# Altium schematic symbol library dmpro16lib.SchLib: 8 symbols
Pins are listed as number, name and electrical type; pins without a type are passive.

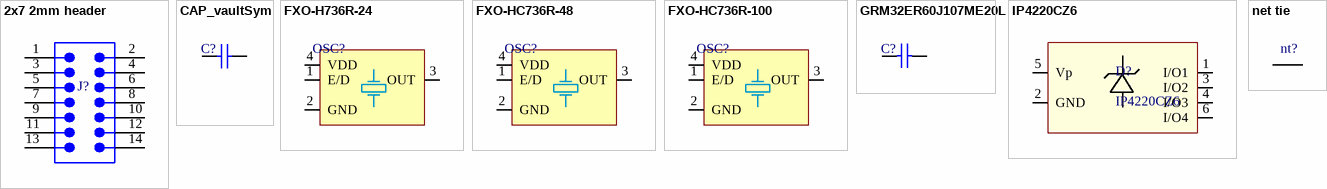
[diagram p0: symbols 2x7 2mm header to net tie]

## 2x7 2mm header
designator J?  (value not drawn)
2 x 7 2mm pitch vertical header; Supplier 1: Digi-Key; Supplier Part Number 1: WM17469-ND
footprint 2x7 2mm (2x7 2mm pitch molex vertical shrouded header)
pins: 1, 2, 3, 4, 5, 6, 7, 8, 9, 10, 11, 12, 13, 14

## CAP_vaultSym
designator C?
pins: 1, 2
1 alternate drawing of the same symbol

## FXO-H736R-24
designator OSC?  (value not drawn)
Supplier 1: Digi-Key; Supplier Part Number 1: 631-1185-1-ND
footprint FXO-HC73 (MEMS oscillator 7x5 mm industry standard package)
pins: 1 E/D, 2 GND, 3 OUT, 4 VDD

## FXO-HC736R-48
designator OSC?  (value not drawn)
Supplier 1: Farnell; Supplier Part Number 1: 1641012RL
footprint FXO-HC73 (MEMS oscillator 7x5 mm industry standard package)
pins: 1 E/D, 2 GND, 3 OUT, 4 VDD

## FXO-HC736R-100
designator OSC?  (value not drawn)
Supplier 1: Digi-Key; Supplier Part Number 1: 631-1176-1-ND
footprint FXO-HC73 (MEMS oscillator 7x5 mm industry standard package)
pins: 1 E/D, 2 GND, 3 OUT, 4 VDD

## GRM32ER60J107ME20L
designator C?  (value not drawn)
1210 100uF capacitor for artix-7 power decoupling; Supplier 1: Digi-Key; Supplier Part Number 1: 490-3390-1-ND
footprint CAPC1210(3225)250_N (Chip Capacitor, Body 3.2x2.5mm, Height 2.5mm, IPC Medium Density)
pins: 1, 2
1 alternate drawing of the same symbol

## IP4220CZ6
designator D?
4 channel USB ESD protection device; Supplier 1: Digi-Key; Supplier Part Number 1: 568-3529-2-ND
footprint NXP SOT457 (6 pin SOT457 smd package, NXP)
pins: 1 I/O1, 2 GND, 3 I/O2, 4 I/O3, 5 Vp, 6 I/O4

## net tie
designator nt?  (value not drawn)  (net tie, no BOM)
used to connect nets without transferring net name
footprint net tie (two pads connected to form a net tie)
pins: 0, 1